# Altium footprint library Capacitors_rus.PCBLIB: 349 footprints (part 6 of 22)
Each footprint in its own frame and in the unit in brackets; x right, y up, seen from the top. Pads: shape width x height; smd on the part's side, far side on the other; paste and mask are expansions set on the pad; w line width, h text height; cw(c..) or ccw(c..) is an arc to the next point about the centre after c.
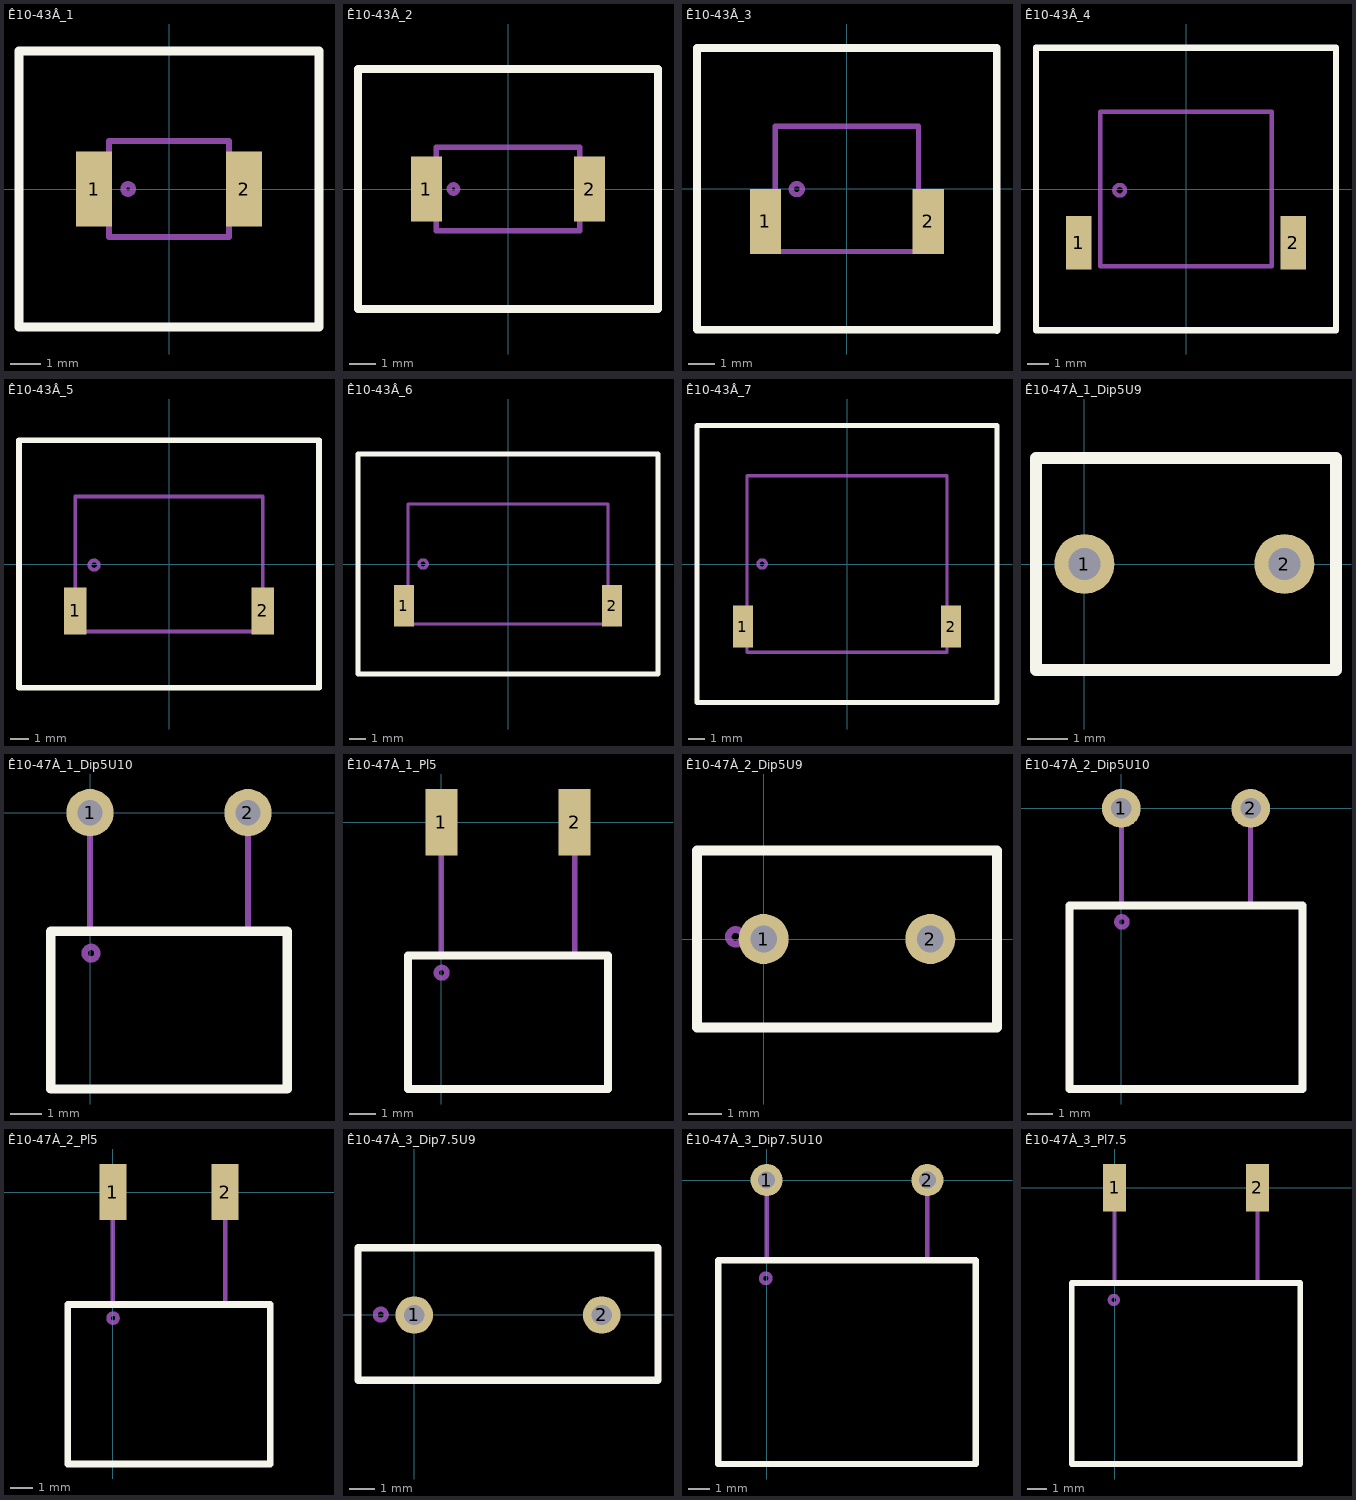
[diagram p5: the footprints below, top view; thin cyan lines are the x and y axes]

## Ê10-43Â_1 [mm]
height 3
pads (2):
  rect 1.2x2.5 smd: 1(-2.5,0) 2(2.5,0)
Top Overlay:
  lines w0.3: -5,-4.6 5,-4.6 5,4.6 -5,4.6 -5,-4.6
Mechanical 1:
  circle w0.2: c-1.36,0 r0.16
  lines w0.2: -2.32,0.24 cw(c-2.32,0.25) -2.32,0.26 ; -5,-4.6 5,-4.6 5,4.6 -5,4.6 -5,-4.6 ; -2,-1.6 -2,1.6 2,1.6 2,-1.6 -2,-1.6
  text ".Designator" at -0.87,-0.3 h1.5

## Ê10-43Â_2 [mm]
height 3
pads (2):
  rect 1.2x2.5 smd: 1(-3.125,0) 2(3.125,0)
Top Overlay:
  lines w0.3: -5.75,-4.6 5.75,-4.6 5.75,4.6 -5.75,4.6 -5.75,-4.6
Mechanical 1:
  circle w0.2: c-2.09,0 r0.16
  lines w0.2: -5.75,-4.6 5.75,-4.6 5.75,4.6 -5.75,4.6 -5.75,-4.6 ; -2.75,-1.6 2.75,-1.6 2.75,1.6 -2.75,1.6 -2.75,-1.6
  text ".Designator" at -1.47,-0.4 h1.5

## Ê10-43Â_3 [mm]
height 3
pads (2):
  rect 1.2x2.5 smd: 1(-3.125,-1.25) 2(3.125,-1.25)
Top Overlay:
  lines w0.3: 5.75,-5.41 -5.75,-5.4 -5.75,5.4 5.75,5.4 5.75,-5.4
Mechanical 1:
  circle w0.2: c-1.92,-0.01 r0.211
  lines w0.2: 5.75,-5.41 -5.75,-5.4 -5.75,5.4 5.75,5.4 ; 5.75,-5.4 5.76,5.4 ; -2.75,-2.4 2.75,-2.4 2.75,2.4 -2.75,2.4 -2.75,-2.4
  text ".Designator" at -1.42,-0.4 h1.5

## Ê10-43Â_4 [mm]
height 3
pads (2):
  rect 1.2x2.5 smd: 1(-5,-2.5) 2(5,-2.5)
Top Overlay:
  lines w0.3: -7,-6.6 -7,6.6 7,6.6 7,-6.6 -7,-6.6
Mechanical 1:
  circle w0.2: c-3.095,-0.06 r0.248
  lines w0.2: -7,-6.6 -7,6.6 7,6.6 7,-6.6 -7,-6.6 ; -4,-3.6 -4,3.6 4,3.6 4,-3.6 -4,-3.6
  text ".Designator" at -2.22,-0.45 h1.5

## Ê10-43Â_5 [mm]
height 3
pads (2):
  rect 1.2x2.5 smd: 1(-5,-2.5) 2(5,-2.5)
Top Overlay:
  lines w0.3: -8,-6.6 -8,6.6 8,6.6 8,-6.6 -8,-6.6
Mechanical 1:
  circle w0.2: c-3.995,-0.06 r0.248
  lines w0.2: -8,-6.6 -8,6.6 8,6.6 8,-6.6 -8,-6.6 ; -5,-3.6 -5,3.6 5,3.6 5,-3.6 -5,-3.6
  text ".Designator" at -2.77,-0.4 h1.5

## Ê10-43Â_6 [mm]
height 3
pads (2):
  rect 1.2x2.5 smd: 1(-6.25,-2.5) 2(6.25,-2.5)
Top Overlay:
  lines w0.3: -9,-6.6 -9,6.6 9,6.6 9,-6.6 -9,-6.6
Mechanical 1:
  circle w0.2: c-5.095,0 r0.245
  lines w0.2: -9,-6.6 -9,6.6 9,6.6 9,-6.6 -9,-6.6 ; -6,-3.6 -6,3.6 6,3.6 6,-3.6 -6,-3.6
  text ".Designator" at -3.02,-0.4 h1.5

## Ê10-43Â_7 [mm]
height 3
pads (2):
  rect 1.2x2.5 smd: 1(-6.25,-3.75) 2(6.25,-3.75)
Top Overlay:
  lines w0.3: -9,-8.3 9,-8.3 9,8.3 -9,8.3 -9,-8.3
Mechanical 1:
  circle w0.2: c-5.095,0 r0.245
  lines w0.2: -9,-8.3 9,-8.3 9,8.3 -9,8.3 -9,-8.3 ; -6,-5.3 6,-5.3 6,5.3 -6,5.3 -6,-5.3
  text ".Designator" at -3.02,-0.4 h1.5

## Ê10-47À_1_Dip5U9 [mm]
height 5
pads (2):
  round 1.5 hole 0.8: 1(0,0) 2(5,0)
Top Overlay:
  lines w0.3: -1.21,-2.65 6.29,-2.65 6.29,2.65 -1.21,2.65 -1.21,-2.65
Mechanical 1:
  circle w0.2: c-0.04,0.015 r0.22
  lines w0.2: -1.21,-2.65 6.29,-2.65 6.29,2.65 -1.21,2.65 -1.21,-2.65
  text ".Designator" at 1.43,-0.35 h1.5

## Ê10-47À_1_Dip5U10 [mm]
height 5.3
pads (2):
  round 1.5 hole 0.8: 1(0,0) 2(5,0)
Top Overlay:
  lines w0.3: -1.25,-8.75 -1.25,-3.75 6.25,-3.75 6.25,-8.75 -1.25,-8.75
Mechanical 1:
  circle w0.2: c0.03,-4.45 r0.2
  lines w0.2: 0,-3.62 0,0 ; 5,-3.62 5,0 ; -1.25,-8.75 -1.25,-3.75 6.25,-3.75 6.25,-8.75 -1.25,-8.75
  text ".Designator" at 0.43,-6.9 h1.5

## Ê10-47À_1_Pl5 [mm]
height 5.3
pads (2):
  rect 1.2x2.5 smd: 1(0,0) 2(5,0)
Top Overlay:
  lines w0.3: -1.25,-10 -1.25,-5 6.25,-5 6.25,-10 -1.25,-10
Mechanical 1:
  circle w0.2: c0.01,-5.64 r0.2
  lines w0.2: 0,-5.02 0,0 ; 5,-5.02 5,0 ; -1.25,-10 -1.25,-5 6.25,-5 6.25,-10 -1.25,-10
  text ".Designator" at 0.53,-7.95 h1.5

## Ê10-47À_2_Dip5U9 [mm]
height 7.1
pads (2):
  round 1.5 hole 0.8: 1(0,0) 2(5,0)
Top Overlay:
  lines w0.3: -2,-2.65 7,-2.65 7,2.65 -2,2.65 -2,-2.65
Mechanical 1:
  circle w0.2: c-0.84,0.065 r0.22
  lines w0.2: -2,-2.65 7,-2.65 7,2.65 -2,2.65 -2,-2.65
  text ".Designator" at 1.08,-0.35 h1.5

## Ê10-47À_2_Dip5U10 [mm]
height 5.3
pads (2):
  round 1.5 hole 0.8: 1(0,0) 2(5,0)
Top Overlay:
  lines w0.3: -2,-10.85 7,-10.85 7,-3.75 -2,-3.75 -2,-10.85
Mechanical 1:
  circle w0.2: c0.02,-4.39 r0.2
  lines w0.2: 0,-3.77 0,0 ; 5,-3.77 5,0 ; 7,-10.85 -2,-10.85 -2,-3.75 7,-3.75 ; 7,-9.07 7,-3.77
  text ".Designator" at 0.68,-7.85 h1.5
3D body: height 5.3, standoff -3, extent -2,-10.85 7,0.299

## Ê10-47À_2_Pl5 [mm]
height 5.3
pads (2):
  rect 1.2x2.5 smd: 1(0,0) 2(5,0)
Top Overlay:
  lines w0.3: -2,-12.1 7,-12.1 7,-5 -2,-5 -2,-12.1
Mechanical 1:
  circle w0.2: c0.01,-5.61 r0.2
  lines w0.2: 0,-5.02 0,0 ; 5,-5.02 5,0 ; -2,-12.1 7,-12.1 7,-5 -2,-5 -2,-12.1
  text ".Designator" at 0.78,-9 h1.5

## Ê10-47À_3_Dip7.5U9 [mm]
height 9.5
pads (2):
  round 1.5 hole 0.8: 1(0,0) 2(7.5,0)
Top Overlay:
  lines w0.3: -2.25,-2.61 9.75,-2.61 9.75,2.69 -2.25,2.69 -2.25,-2.61
Mechanical 1:
  circle w0.2: c-1.34,0.015 r0.22
  lines w0.2: -2.25,2.69 -2.25,-2.61 9.75,-2.61 9.75,2.69 -2.24,2.69
  text ".Designator" at 2.28,-0.35 h1.5

## Ê10-47À_3_Dip7.5U10 [mm]
height 5.3
pads (2):
  round 1.5 hole 0.8: 1(0,0) 2(7.5,0)
Top Overlay:
  lines w0.3: -2.25,-13.25 -2.25,-3.75 9.75,-3.75 9.75,-13.25 -2.25,-13.25
Mechanical 1:
  circle w0.2: c-0.04,-4.585 r0.22
  lines w0.2: 0,-3.77 0,0 ; 7.5,-3.77 7.5,0 ; -2.25,-13.25 -2.25,-3.75 9.75,-3.75 9.75,-13.25 -2.25,-13.25
  text ".Designator" at 1.63,-8.8 h1.5

## Ê10-47À_3_Pl7.5 [mm]
height 5.3
pads (2):
  rect 1.2x2.5 smd: 1(0,0) 2(7.5,0)
Top Overlay:
  lines w0.3: -2.25,-14.5 9.75,-14.5 9.75,-5 -2.25,-5 -2.25,-14.5
Mechanical 1:
  circle w0.2: c-0.04,-5.885 r0.22
  lines w0.2: 0,-5 0,0 ; 7.5,-5 7.5,0 ; -2.25,-14.5 9.75,-14.5 9.75,-5 -2.25,-5 -2.25,-14.5
  text ".Designator" at 1.58,-10.25 h1.5